# Altium footprint library Displays LED.PcbLib: 2 footprints
Each footprint in its own frame and in the unit in brackets; x right, y up, seen from the top. Pads: shape width x height; smd on the part's side, far side on the other; paste and mask are expansions set on the pad; w line width, h text height; cw(c..) or ccw(c..) is an arc to the next point about the centre after c.
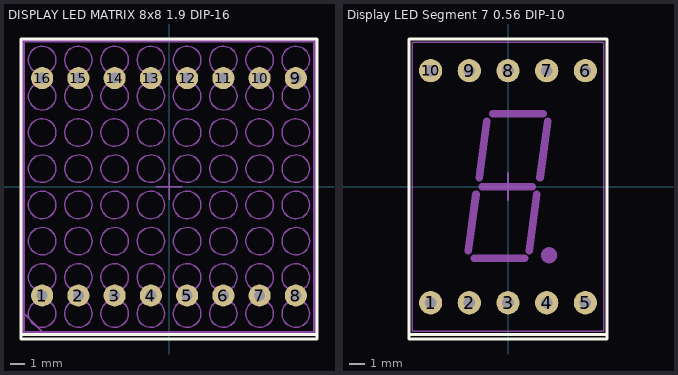
[diagram p0: the footprints below, top view; thin cyan lines are the x and y axes]

## DISPLAY LED MATRIX 8x8 1.9 DIP-16 [mil]
height 232.28
pads (16):
  round 60 hole 30: 1(-344.49,-295.28) 2(-246.06,-295.28) 3(-147.64,-295.28) 4(-49.21,-295.28) 5(49.21,-295.28) 6(147.64,-295.28) 7(246.06,-295.28) 8(344.49,-295.28) 9(344.49,295.28) 10(246.06,295.28) 11(147.64,295.28) 12(49.21,295.28) 13(-49.21,295.28) 14(-147.64,295.28) 15(-246.06,295.28) 16(-344.49,295.28)
Top Overlay:
  lines w7.87: -401.57,-401.57 401.57,-401.57 ; -401.57,-413.39 401.57,-413.39 401.57,401.57 -401.57,401.57 -401.57,-413.39
Top Package:
  circle w3.94: c246.06,246.06 r37.4
  circle w3.94: c246.06,-344.49 r37.4
  circle w3.94: c246.06,-49.21 r37.4
  circle w3.94: c-344.49,246.06 r37.4
  circle w3.94: c-49.21,246.06 r37.4
  circle w3.94: c-344.49,-344.49 r37.4
  circle w3.94: c-49.21,-344.49 r37.4
  circle w3.94: c-49.21,-49.21 r37.4
  circle w3.94: c-344.49,-49.21 r37.4
  circle w3.94: c246.06,344.49 r37.4
  circle w3.94: c246.06,49.21 r37.4
  circle w3.94: c246.06,147.64 r37.4
  circle w3.94: c246.06,-246.06 r37.4
  circle w3.94: c246.06,-147.64 r37.4
  circle w3.94: c-344.49,344.49 r37.4
  circle w3.94: c-49.21,344.49 r37.4
  circle w3.94: c-49.21,147.64 r37.4
  circle w3.94: c-49.21,49.21 r37.4
  circle w3.94: c-344.49,49.21 r37.4
  circle w3.94: c-344.49,147.64 r37.4
  circle w3.94: c-344.49,-246.06 r37.4
  circle w3.94: c-49.21,-246.06 r37.4
  circle w3.94: c-49.21,-147.64 r37.4
  circle w3.94: c-344.49,-147.64 r37.4
  circle w3.94: c344.49,246.06 r37.4
  circle w3.94: c344.49,-344.49 r37.4
  circle w3.94: c344.49,-49.21 r37.4
  circle w3.94: c49.21,246.06 r37.4
  circle w3.94: c147.64,246.06 r37.4
  circle w3.94: c49.21,-344.49 r37.4
  circle w3.94: c147.64,-344.49 r37.4
  circle w3.94: c147.64,-49.21 r37.4
  circle w3.94: c49.21,-49.21 r37.4
  circle w3.94: c-246.06,246.06 r37.4
  circle w3.94: c-147.64,246.06 r37.4
  circle w3.94: c-246.06,-344.49 r37.4
  circle w3.94: c-147.64,-344.49 r37.4
  circle w3.94: c-147.64,-49.21 r37.4
  circle w3.94: c-246.06,-49.21 r37.4
  circle w3.94: c344.49,344.49 r37.4
  circle w3.94: c344.49,49.21 r37.4
  circle w3.94: c344.49,147.64 r37.4
  circle w3.94: c344.49,-246.06 r37.4
  circle w3.94: c344.49,-147.64 r37.4
  circle w3.94: c147.64,344.49 r37.4
  circle w3.94: c49.21,344.49 r37.4
  circle w3.94: c49.21,147.64 r37.4
  circle w3.94: c49.21,49.21 r37.4
  circle w3.94: c147.64,49.21 r37.4
  circle w3.94: c147.64,147.64 r37.4
  circle w3.94: c49.21,-246.06 r37.4
  circle w3.94: c49.21,-147.64 r37.4
  circle w3.94: c147.64,-246.06 r37.4
  circle w3.94: c147.64,-147.64 r37.4
  circle w3.94: c-246.06,344.49 r37.4
  circle w3.94: c-147.64,344.49 r37.4
  circle w3.94: c-246.06,147.64 r37.4
  circle w3.94: c-147.64,147.64 r37.4
  circle w3.94: c-147.64,49.21 r37.4
  circle w3.94: c-246.06,49.21 r37.4
  circle w3.94: c-147.64,-246.06 r37.4
  circle w3.94: c-246.06,-246.06 r37.4
  circle w3.94: c-147.64,-147.64 r37.4
  circle w3.94: c-246.06,-147.64 r37.4
  circle w3.94: c246.06,295.28 r9.84
  circle w3.94: c246.06,-295.28 r9.84
  circle w3.94: c-246.06,295.28 r9.84
  circle w3.94: c-246.06,-295.28 r9.84
  circle w3.94: c344.49,295.28 r9.84
  circle w3.94: c344.49,-295.28 r9.84
  circle w3.94: c147.64,295.28 r9.84
  circle w3.94: c147.64,-295.28 r9.84
  circle w3.94: c49.21,295.28 r9.84
  circle w3.94: c49.21,-295.28 r9.84
  circle w3.94: c-49.21,295.28 r9.84
  circle w3.94: c-49.21,-295.28 r9.84
  circle w3.94: c-147.64,295.28 r9.84
  circle w3.94: c-147.64,-295.28 r9.84
  circle w3.94: c-344.49,295.28 r9.84
  circle w3.94: c-344.49,-295.28 r9.84
  lines w3.94: -393.7,-344.49 -344.49,-393.7 ; -393.7,-393.7 393.7,-393.7 393.7,393.7 -393.7,393.7 -393.7,-393.7
Top Border:
  lines w3.94: -35.43,0 35.43,0 ; 0,-35.43 0,35.43 ; -397.64,-397.64 397.64,-397.64 397.64,397.64 -397.64,397.64 -397.64,-397.64
3D body "DISP LED 8x8 1.9 DIP-16.stp": height 232.32, standoff -39.37, extent -393.69,-393.69 393.71,393.71

## Display LED Segment 7 0.56 DIP-10 [mil]
height 314.96
pads (10):
  round 60 hole 30: 1(-200,-300) 2(-100,-300) 3(0,-300) 4(100,-300) 5(200,-300) 6(200,300) 7(100,300) 8(0,300) 9(-100,300) 10(-200,300)
Top Overlay:
  lines w7.87: -255.91,-381.89 255.91,-381.89 ; -255.91,-393.7 -255.91,381.89 255.91,381.89 255.91,-393.7 -255.91,-393.7
Top Package:
  circle w3.94: c0,300 r9.84
  circle w3.94: c0,-300 r9.84
  circle w19.68: c106.3,-177.17 r11.05
  circle w3.94: c200,300 r9.84
  circle w3.94: c200,-300 r9.84
  circle w3.94: c100,300 r9.84
  circle w3.94: c100,-300 r9.84
  circle w3.94: c-100,300 r9.84
  circle w3.94: c-100,-300 r9.84
  circle w3.94: c-200,300 r9.84
  circle w3.94: c-200,-300 r9.84
  lines w3.94: -248.03,-374.02 248.03,-374.02 248.03,374.02 -248.03,374.02 -248.03,-374.02
  lines w19.68: -102.36,-165.35 -82.68,-19.69 ; -86.61,-185.04 43.31,-185.04 ; -74.8,23.62 -55.12,169.29 ; -66.93,0 62.99,0 ; -39.37,188.98 90.55,188.98 ; 55.12,-165.35 74.8,-19.69 ; 82.68,23.62 102.36,169.29
Top Border:
  lines w3.94: -35.43,0 35.43,0 ; 0,-35.43 0,35.43 ; -255.91,-381.89 -255.91,381.89 255.91,381.89 255.91,-381.89 -255.91,-381.89
3D body "DISP LED 7S 1D 0.56 DIP-10.stp": height 314.96, standoff -39.37, extent -250.99,-375.98 249.01,374.02